# Altium schematic symbol library SLM1112-102-KHF.Schlib: 1 symbol
Pins are listed as number, name and electrical type; pins without a type are passive.

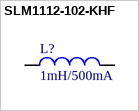
[diagram p0: symbol SLM1112-102-KHF]

## SLM1112-102-KHF
designator L?, comment 1mH/500mA
Power Inductor
pins: 1, 2